# Altium schematic symbol library LAA108STR.SchLib: 1 symbol
Pins are listed as number, name and electrical type; pins without a type are passive.

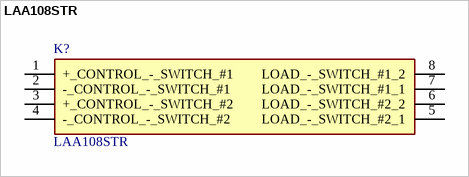
[diagram p0: symbol LAA108STR]

## LAA108STR
designator K?
Solid State SPST-NO (1 Form A) x 2 8-SMD (0.300", 7.62mm); Manufacturer_Name: LITTELFUSE; Geometry.Height: 4.572mm; Mouser Part Number: 849-LAA108STR; Mouser Price/Stock: https://www.mouser.co.uk/ProductDetail/IXYS-Integrated-Circuits/LAA108STR?qs=OpMkDkHXivM0qwe7BHe4OQ%3D%3D; Manufacturer_Part_Number: LAA108STR; Datasheet Link: https://www.ixysic.com/home/pdfs.nsf/www/LAA108.pdf/$file/LAA108.pdf
footprint SOP254P952X457-8N
pins: 1 +_CONTROL_-_SWITCH_#1, 2 -_CONTROL_-_SWITCH_#1, 3 +_CONTROL_-_SWITCH_#2, 4 -_CONTROL_-_SWITCH_#2, 5 LOAD_-_SWITCH_#2_1, 6 LOAD_-_SWITCH_#2_2, 7 LOAD_-_SWITCH_#1_1, 8 LOAD_-_SWITCH_#1_2